# EAGLE library part 3X2 (library pixel)
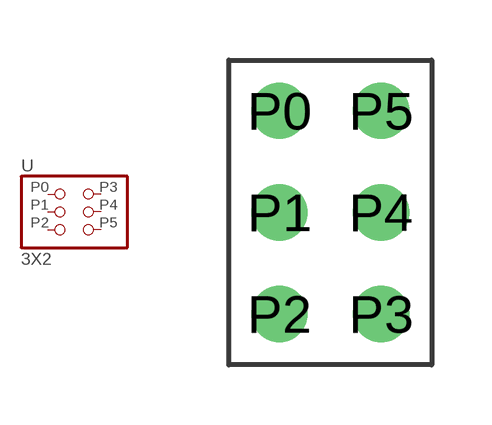
[diagram p4: symbol with the pads of 3X2; footprint 3X2]

Designator prefix -

## 3X2  [3X2]
P0  P0  pas
P1  P1  pas
P2  P2  pas
P3  P3  pas
P4  P4  pas
P5  P5  pas

## Footprint 3X2 (pad centres in mm)
drill 0.9 pad 1.27: P0 -1.27,2.54; P1 -1.27,0; P2 -1.27,-2.54; P3 1.27,-2.54; P4 1.27,0; P5 1.27,2.54